# Altium schematic symbol library SFH_2400.SchLib: 1 symbol
Pins are listed as number, name and electrical type; pins without a type are passive.

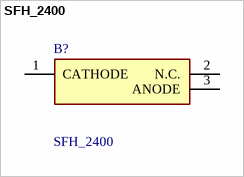
[diagram p0: symbol SFH_2400]

## SFH_2400
designator B?
Photodiode PIN Chip 850nm Automotive 3-Pin Smart DIL; Manufacturer_Name: ams OSRAM; Geometry.Height: 1.15mm; TME Electronic Components Part Number: *; TME Electronic Components Price/Stock: *; Manufacturer_Part_Number: SFH 2400; Datasheet Link: https://look.ams-osram.com/m/603400502021bc6b/original/SFH-2400.pdf
footprint SFH2400
pins: 1 CATHODE, 2 N.C., 3 ANODE